# EAGLE library part 74LS138 (library atari)
3-Line To 8-Line Decoder
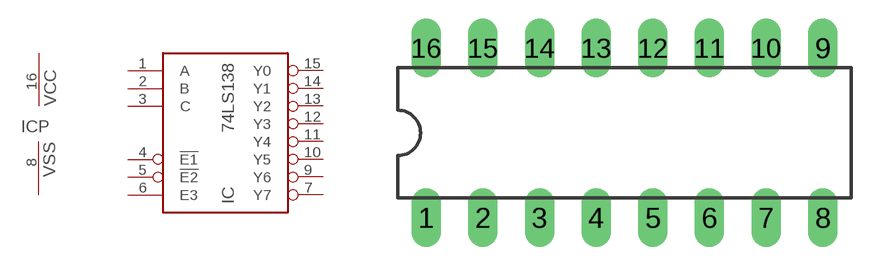
[diagram p17: symbol with the pads of DIL16; footprint DIL16]

Designator prefix IC; gates =74LS138 P=VCCVSS

## 74LS138  [DIL16]
1  :A  in
2  :B  in
3  :C  in
4  :!E1  in
5  :!E2  in
6  :E3  in
7  :Y7  out
8  P:VSS  pwr
9  :Y6  out
10  :Y5  out
11  :Y4  out
12  :Y3  out
13  :Y2  out
14  :Y1  out
15  :Y0  out
16  P:VCC  pwr

## Footprint DIL16 (pad centres in mm)
drill 0.813 long: 1 -8.89,-3.81; 2 -6.35,-3.81; 3 -3.81,-3.81; 4 -1.27,-3.81; 5 1.27,-3.81; 6 3.81,-3.81; 7 6.35,-3.81; 8 8.89,-3.81; 9 8.89,3.81; 10 6.35,3.81; 11 3.81,3.81; 12 1.27,3.81; 13 -1.27,3.81; 14 -3.81,3.81; 15 -6.35,3.81; 16 -8.89,3.81